# Altium schematic symbol library VS-6CWQ03FNTR-M3.SchLib: 1 symbol
Pins are listed as number, name and electrical type; pins without a type are passive.

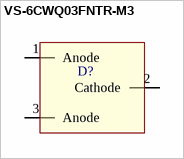
[diagram p0: symbol VS-6CWQ03FNTR-M3]

## VS-6CWQ03FNTR-M3
designator D?  (value not drawn)
footprint DPAK228P970X238-3N (D-PAK, 3-Pads, Body 6,20x6,72mm (max), IPC Medium Density)
pins: 1 Anode, 2 Cathode, 3 Anode